# Altium integrated library PCB_Project.IntLib: 22 symbols
Pins are listed as number, name and electrical type; pins without a type are passive.

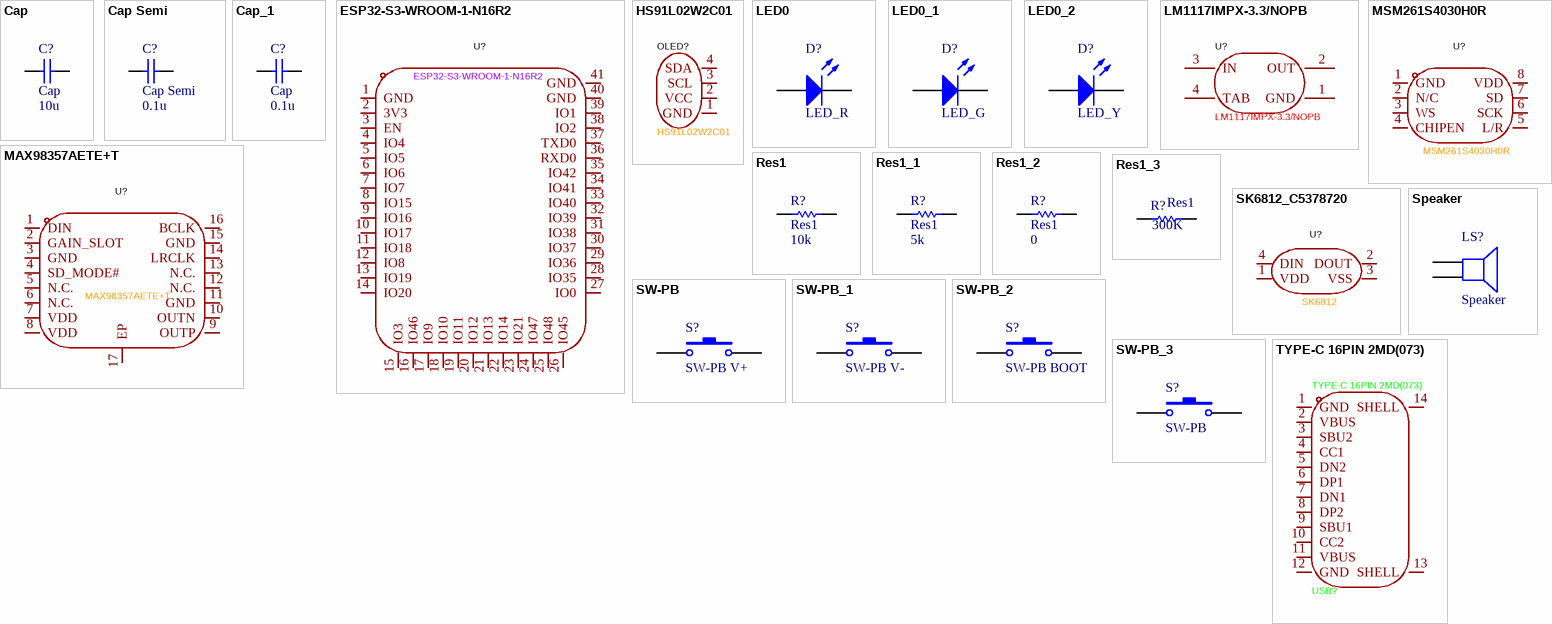
[diagram p0: symbols Cap to TYPE-C 16PIN 2MD(073)]

## Cap
designator C?  value 10u
Capacitor; Published: 8-Jun-2000; LatestRevisionDate: 17-Jul-2002; LatestRevisionNote: Re-released for DXP Platform.; PackageReference: RAD-0.3; Publisher: Altium Limited; PackageDescription: Radial Cap, Thru-Hole; 2 Leads; 0.3 in Pin Spacing
footprint RAD-0.3 (Radial Cap, Thru-Hole; 2 Leads; 0.3 in Pin Spacing)
simulation model CAP (Capacitor)
signal-integrity model Cap
footprint 0805C
pins: 1, 2

## Cap Semi
designator C?  value 0.1u
Capacitor (Semiconductor SIM Model); Published: 8-Jun-2000; LatestRevisionDate: 29-May-2009; LatestRevisionNote: IPC-7351 Footprint Added.; PackageReference: C1206; Publisher: Altium Limited; PackageDescription: Chip Capacitor
footprint C1206 (Chip Capacitor, Body 3.2x1.6mm, IPC High Density)
footprint 0402 (Chip Capacitor, Body 1.0x0.5mm, IPC High Density)
footprint C2512 (Chip Capacitor, Body 2.54x1.27mm, IPC High Density)
footprint 1608[0603] (Chip Capacitor, Body 1.6x0.8mm, IPC High Density)
footprint C1210 (Chip Capacitor, Body 3.2x2.5mm, IPC High Density)
simulation model CAP (Semiconductor Capacitor)
signal-integrity model Cap Semi
footprint 0805C
pins: 1, 2

## Cap_1
designator C?, comment Cap  value 0.1u
Capacitor; Published: 8-Jun-2000; LatestRevisionDate: 17-Jul-2002; LatestRevisionNote: Re-released for DXP Platform.; PackageReference: RAD-0.3; Publisher: Altium Limited; PackageDescription: Radial Cap, Thru-Hole; 2 Leads; 0.3 in Pin Spacing
footprint RAD-0.3 (Radial Cap, Thru-Hole; 2 Leads; 0.3 in Pin Spacing)
simulation model CAP (Capacitor)
signal-integrity model Cap
footprint 0805C
pins: 1, 2

## ESP32-S3-WROOM-1-N16R2
designator U?
Manufacturer: ESPRESSIF(乐鑫); Symbol: ESP32-S3-WROOM-1(N16R2); Add into BOM: yes; Device: ESP32-S3-WROOM-1-N16R2; LCSC Part Name: 通用型Wi-Fi+低功耗蓝牙MCU模组; Supplier Part: C2913205; Manufacturer Part: ESP32-S3-WROOM-1-N16R2; Supplier Footprint: SMD,18x25.5mm; JLCPCB Part Class: Extended Part; Datasheet: https://atta.szlcsc.com/upload/public/pdf/source/20220628/A2AC12B3C87735CAEB7EBE2DBE80936C.pdf; Supplier: LCSC; Convert to PCB: yes
footprint WIRELM-SMD_ESP32-S3-WROOM-1
3D model WIRELM-SMD_ESP32-S3-WROOM-1
signal-integrity model Guessed Model (IC Model Details Guessed by Setup Helper)
pins: 1 GND, 2 3V3, 3 EN, 4 IO4, 5 IO5, 6 IO6, 7 IO7, 8 IO15, 9 IO16, 10 IO17, 11 IO18, 12 IO8, 13 IO19, 14 IO20, 15 IO3, 16 IO46, 17 IO9, 18 IO10, 19 IO11, 20 IO12, 21 IO13, 22 IO14, 23 IO21, 24 IO47, 25 IO48, 26 IO45, 27 IO0, 28 IO35, 29 IO36, 30 IO37, 31 IO38, 32 IO39, 33 IO40, 34 IO41, 35 IO42, 36 RXD0, 37 TXD0, 38 IO2, 39 IO1, 40 GND, 41 GND

## HS91L02W2C01
designator OLED?
Manufacturer: HS(汉昇); Add into BOM: yes; Main Control Chip: SSD1306; Interface Type: I2C; Pixel Resolution: 128x32; Symbol: HS91L02W2C01; Device: HS91L02W2C01; LCSC Part Name: 0.91寸OLED显示屏白光IIC; Supplier Part: C5248081; Manufacturer Part: HS91L02W2C01; Supplier Footprint: -; JLCPCB Part Class: Extended Part; Datasheet: https://atta.szlcsc.com/upload/public/pdf/source/20230727/C3E43C8E3DDA847F5681FEE7D95C153D.pdf; Supplier: LCSC; Convert to PCB: yes; Size: 0.91; Operating Temperature: -40℃~+70℃
footprint OLED-TH_L38.0-W12.0_HS91L02W2C01
3D model OLED-TH_L38.0-W12.0_HS91L02W2C01
signal-integrity model Guessed Model (IC Model Details Guessed by Setup Helper)
pins: 1 GND, 2 VCC, 3 SCL, 4 SDA

## LED0
designator D?, comment LED_R
Typical INFRARED GaAs LED; Published: 8-Jun-2000; LatestRevisionDate: 08-Jul-2005; LatestRevisionNote: Mech Layer 1 removed.; PackageReference: LED-0; Publisher: Altium Limited; PackageDescription: LED; 2 Leads
footprint LED-0 (LED; 2 Leads)
simulation model LED0 (Diode)
signal-integrity model Guessed Model (Diode Model Details Guessed by Setup Helper)
footprint LED-1206
footprint LED0805-R-RD
pins: 1 A, 2 K

## LED0_1
designator D?, comment LED_G
Typical INFRARED GaAs LED; Published: 8-Jun-2000; LatestRevisionDate: 08-Jul-2005; LatestRevisionNote: Mech Layer 1 removed.; PackageReference: LED-0; Publisher: Altium Limited; PackageDescription: LED; 2 Leads
footprint LED-0 (LED; 2 Leads)
simulation model LED0 (Diode)
signal-integrity model Guessed Model (Diode Model Details Guessed by Setup Helper)
footprint LED-1206
footprint LED0805-R-RD
pins: 1 A, 2 K

## LED0_2
designator D?, comment LED_Y
Typical INFRARED GaAs LED; Published: 8-Jun-2000; LatestRevisionDate: 08-Jul-2005; LatestRevisionNote: Mech Layer 1 removed.; PackageReference: LED-0; Publisher: Altium Limited; PackageDescription: LED; 2 Leads
footprint LED-0 (LED; 2 Leads)
simulation model LED0 (Diode)
signal-integrity model Guessed Model (Diode Model Details Guessed by Setup Helper)
footprint LED-1206
footprint LED0805-R-RD
pins: 1 A, 2 K

## LM1117IMPX-3.3/NOPB
designator U?
Manufacturer: TI(德州仪器); Add into BOM: yes; Output Type: 固定; Maximum Input Voltage: 15V; Output Voltage: 3.3V; MAX Output Current: 800mA; Power Supply Rejection Ratio (PSRR): 75dB@(120Hz); Dropout Voltage: 1.2V@(800mA); standby current: 5mA; Output Polarity: 正极; Number of Outputs: 1; Symbol: LM1117IMPX-3.3/NOPB; Device: LM1117IMPX-3.3/NOPB; LCSC Part Name: 输入20V 输出3.3V 800mA; Supplier Part: C23984; Manufacturer Part: LM1117IMPX-3.3/NOPB; Supplier Footprint: SOT-223; JLCPCB Part Class: Extended Part; Datasheet: http://www.ti.com/cn/lit/gpn/lm1117; Supplier: LCSC; Convert to PCB: yes; Operating Temperature: -40℃~+125℃
footprint SOT-223_L6.5-W3.5-P2.30-LS7.0-BR
3D model SOT-223-4P_L6.5-W3.5-H1.6-LS7.0-P2.30
signal-integrity model Guessed Model (IC Model Details Guessed by Setup Helper)
pins: 1 GND, 2 OUT, 3 IN, 4 TAB

## MAX98357AETE+T
designator U?
Manufacturer: ADI(亚德诺)/MAXIM(美信); Add into BOM: yes; Speaker Channels: 单声道; Output Power: 3.2Wx2@4Ω; Supply Voltage: 2.5V~5.5V; Symbol: MAX98357AETE+T; Device: MAX98357AETE+T; LCSC Part Name: 微型、低成本、PCM 类 D 级放大器具有 AB 级性能; Supplier Part: C910544; Manufacturer Part: MAX98357AETE+T; Supplier Footprint: TQFN-16-EP(3x3); JLCPCB Part Class: Extended Part; Datasheet: https://atta.szlcsc.com/upload/public/pdf/source/20210106/C910544_CB6DE4B2CEE254A72E6BDB40E718D281.pdf; Supplier: LCSC; Convert to PCB: yes; Type of Power Amplifier: -; Operating Temperature: -40℃~+85℃
footprint TQFN-16_L3.0-W3.0-P0.50-BL-EP1.5
3D model TQFN-16_L3.0-W3.0-P0.50-BL-EP1.5
signal-integrity model Guessed Model (IC Model Details Guessed by Setup Helper)
pins: 1 DIN, 2 GAIN_SLOT, 3 GND, 4 SD_MODE#, 5 N.C., 6 N.C., 7 VDD, 8 VDD, 9 OUTP, 10 OUTN, 11 GND, 12 N.C., 13 N.C., 14 LRCLK, 15 GND, 16 BCLK, 17 EP

## MSM261S4030H0R
designator U?
Manufacturer: MEMS(敏芯微); Add into BOM: yes; Symbol: MSM261S4030H0R; Device: MSM261S4030H0R; LCSC Part Name: MSM261S4030H0R; Supplier Part: C2840615; Manufacturer Part: MSM261S4030H0R; Supplier Footprint: -; JLCPCB Part Class: Extended Part; Datasheet: https://atta.szlcsc.com/upload/public/pdf/source/20210707/C2840615_6AE5BCBEE3224C96A8195D5DC270E7C8.pdf; Supplier: LCSC; Convert to PCB: yes
footprint MIC-SMD_8P-L4.0-W3.0-P1.00-BR
signal-integrity model Guessed Model (IC Model Details Guessed by Setup Helper)
pins: 1 GND, 2 N/C, 3 WS, 4 CHIPEN, 5 L/R, 6 SCK, 7 SD, 8 VDD

## Res1
designator R?  value 10k
Resistor; Published: 8-Jun-2000; LatestRevisionDate: 17-Jul-2002; LatestRevisionNote: Re-released for DXP Platform.; PackageReference: AXIAL-0.3; Publisher: Altium Limited; PackageDescription: Axial Device, Thru-Hole; 2 Leads; 0.3 in Pin Spacing
footprint AXIAL-0.3 (Axial Device, Thru-Hole; 2 Leads; 0.3 in Pin Spacing)
simulation model RESISTOR (Resistor)
signal-integrity model Res
footprint 0805R
pins: 1, 2

## Res1_1
designator R?, comment Res1  value 5k
Resistor; Published: 8-Jun-2000; LatestRevisionDate: 17-Jul-2002; LatestRevisionNote: Re-released for DXP Platform.; PackageReference: AXIAL-0.3; Publisher: Altium Limited; PackageDescription: Axial Device, Thru-Hole; 2 Leads; 0.3 in Pin Spacing
footprint AXIAL-0.3 (Axial Device, Thru-Hole; 2 Leads; 0.3 in Pin Spacing)
simulation model RESISTOR (Resistor)
signal-integrity model Res
footprint 0805R
pins: 1, 2

## Res1_2
designator R?, comment Res1  value 0
Resistor; Published: 8-Jun-2000; LatestRevisionDate: 17-Jul-2002; LatestRevisionNote: Re-released for DXP Platform.; PackageReference: AXIAL-0.3; Publisher: Altium Limited; PackageDescription: Axial Device, Thru-Hole; 2 Leads; 0.3 in Pin Spacing
footprint AXIAL-0.3 (Axial Device, Thru-Hole; 2 Leads; 0.3 in Pin Spacing)
simulation model RESISTOR (Resistor)
signal-integrity model Res
footprint 0805R
pins: 1, 2

## Res1_3
designator R?, comment Res1  value 300K
Resistor; Published: 8-Jun-2000; LatestRevisionDate: 17-Jul-2002; LatestRevisionNote: Re-released for DXP Platform.; PackageReference: AXIAL-0.3; Publisher: Altium Limited; PackageDescription: Axial Device, Thru-Hole; 2 Leads; 0.3 in Pin Spacing
footprint AXIAL-0.3 (Axial Device, Thru-Hole; 2 Leads; 0.3 in Pin Spacing)
simulation model RESISTOR (Resistor)
signal-integrity model Res
footprint 0805R
pins: 1, 2

## SK6812_C5378720
designator U?, comment SK6812
Manufacturer: 欧思科光电; Symbol: SK6812_C5378720; Add into BOM: yes; Device: SK6812_C5378720; LCSC Part Name: SK6812; Supplier Part: C5378720; Manufacturer Part: SK6812; Supplier Footprint: SMD-4P,5.4x5mm; JLCPCB Part Class: Extended Part; Datasheet: https://atta.szlcsc.com/upload/public/pdf/source/20230330/4C8DEAC234E2ECEEE596F166E9B92CF0.pdf; Supplier: LCSC; Convert to PCB: yes
footprint LED-SMD_4P-L5.0-W5.0-LS5.4-TL-1
3D model LED-SMD_4P-L5.0-W5.0-LS5.4-TL-1
signal-integrity model Guessed Model (IC Model Details Guessed by Setup Helper)
pins: 1 VDD, 2 DOUT, 3 VSS, 4 DIN

## Speaker
designator LS?
Loudspeaker; Published: 24-Mar-1999; LatestRevisionDate: 17-Jul-2002; LatestRevisionNote: Re-released for DXP Platform.; PackageReference: PIN2; Publisher: Altium Limited
footprint PIN2 (Loudspeaker; 2 Leads)
footprint spk_11x15
signal-integrity model Guessed Model (Inductor Model Details Guessed by Setup Helper)
pins: 1, 2

## SW-PB
designator S?, comment SW-PB V+
Switch; Published: 24-Mar-1999; LatestRevisionDate: 17-Jul-2002; LatestRevisionNote: Re-released for DXP Platform.; PackageReference: SPST-2; Publisher: Altium Limited; PackageDescription: Switch; 2 Leads
footprint SPST-2 (Switch; 2 Leads)
footprint SW_side_click_6x3x3
signal-integrity model Guessed Model (Connector Model Details Guessed by Setup Helper)
pins: 1, 2

## SW-PB_1
designator S?, comment SW-PB V-
Switch; Published: 24-Mar-1999; LatestRevisionDate: 17-Jul-2002; LatestRevisionNote: Re-released for DXP Platform.; PackageReference: SPST-2; Publisher: Altium Limited; PackageDescription: Switch; 2 Leads
footprint SPST-2 (Switch; 2 Leads)
footprint SW_side_click_6x3x3
signal-integrity model Guessed Model (Connector Model Details Guessed by Setup Helper)
pins: 1, 2

## SW-PB_2
designator S?, comment SW-PB BOOT
Switch; Published: 24-Mar-1999; LatestRevisionDate: 17-Jul-2002; LatestRevisionNote: Re-released for DXP Platform.; PackageReference: SPST-2; Publisher: Altium Limited; PackageDescription: Switch; 2 Leads
footprint SPST-2 (Switch; 2 Leads)
footprint SW_side_click_6x3x3
signal-integrity model Guessed Model (Connector Model Details Guessed by Setup Helper)
pins: 1, 2

## SW-PB_3
designator S?, comment SW-PB
Switch; Published: 24-Mar-1999; LatestRevisionDate: 17-Jul-2002; LatestRevisionNote: Re-released for DXP Platform.; PackageReference: SPST-2; Publisher: Altium Limited; PackageDescription: Switch; 2 Leads
footprint SPST-2 (Switch; 2 Leads)
footprint SW_side_click_6x3x3
signal-integrity model Guessed Model (Connector Model Details Guessed by Setup Helper)
pins: 1, 2

## TYPE-C 16PIN 2MD(073)
designator USB?
Manufacturer: SHOU HAN(首韩); Add into BOM: yes; Gender: 母; Number of Contacts: 16P; Number of Ports: 1; Current Rating - Power (Max): 5A; Rated Voltage (Max): 5V; Connect-Disconnect Life: 5千次; Core Colour: 黑色; Symbol: TYPE-C 16PIN 2MD(073); Device: TYPE-C 16PIN 2MD(073); LCSC Part Name: Type-C 母 卧贴; Supplier Part: C2765186; Manufacturer Part: TYPE-C 16PIN 2MD(073); Supplier Footprint: SMD; JLCPCB Part Class: Extended Part; Datasheet: https://atta.szlcsc.com/upload/public/pdf/source/20211123/39B17C16241EAC15C5E277BDA434118E.pdf; Supplier: LCSC; Convert to PCB: yes; Connector Type: Type-C; Standard: USB 3.1; Mounting Style: 卧贴; Operating Temperature Range: -25℃~+85℃
footprint USB-C-SMD_TYPE-C-6PIN-2MD-073
3D model USB-C-SMD_TYPE-C-6PIN-2MD-073
signal-integrity model Guessed Model (Connector Model Details Guessed by Setup Helper)
pins: 1 GND, 2 VBUS, 3 SBU2, 4 CC1, 5 DN2, 6 DP1, 7 DN1, 8 DP2, 9 SBU1, 10 CC2, 11 VBUS, 12 GND, 13 SHELL, 14 SHELL